# Altium footprint library SOD-123.PcbLib: 1 footprints
Each footprint in its own frame and in the unit in brackets; x right, y up, seen from the top. Pads: shape width x height; smd on the part's side, far side on the other; paste and mask are expansions set on the pad; w line width, h text height; cw(c..) or ccw(c..) is an arc to the next point about the centre after c.
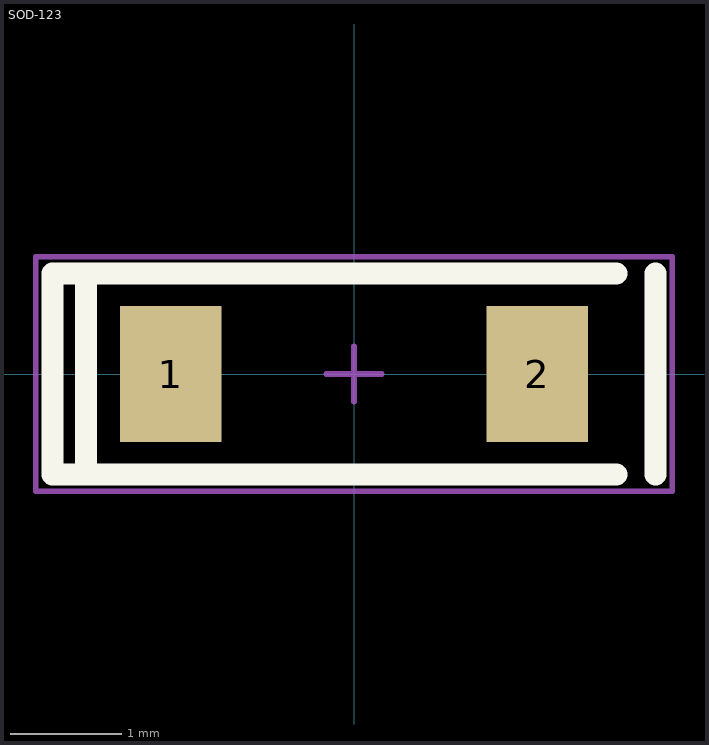
[diagram p0: the footprint, top view; thin cyan lines are the x and y axes]

## SOD-123 [mm] "SOD123"
height 1.1
pads (2):
  rect 0.91x1.22 smd: 1(-1.64,0) 2(1.64,0)
Top Overlay:
  lines w0.2: -2.4,-0.85 -2.4,0.85 ; 2.35,-0.9 -2.7,-0.9 -2.7,0.9 2.35,0.9 ; 2.7,-0.9 2.7,0.9
Part Outline:
  lines w0.05: -0.25,0 0.25,0 ; 0,-0.25 0,0.25 ; -2.85,-1.05 2.85,-1.05 2.85,1.05 -2.85,1.05 -2.85,-1.05
3D body "User Library-SOD-123_DiodesInc.step": height 1.43, standoff -0.02, extent -1.925,-0.85 1.925,0.85